# Altium schematic symbol library LDO.SchLib: 5 symbols
Pins are listed as number, name and electrical type; pins without a type are passive.

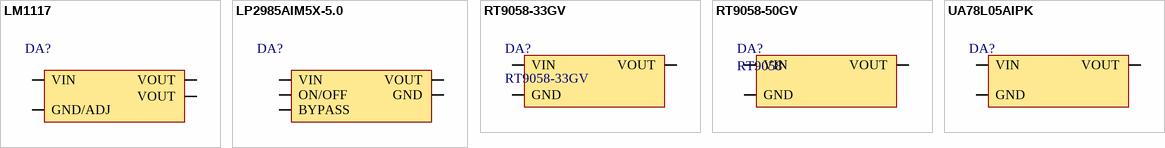
[diagram p0: symbols LM1117 to UA78L05AIPK]

## LM1117
designator DA?
footprint SOT230P700X180-4N (SOT223, 4-Leads, Body 6,50x7,00mm (avg), Pitch 2,30mm, IPC Medium Density)
pins: 1 GND/ADJ (in), 2 VOUT (power), 3 VIN (power), 4 VOUT (power)

## LP2985AIM5X-5.0
designator DA?  (value not drawn)
footprint SOT-23-5(MD) (SOT23, 5-Leads, Body 2,90x2,45mm, Pitch 0,95mm, IPC Medium Density)
pins: 1 VIN (power), 2 GND (power), 3 ON/OFF (in), 4 BYPASS (in), 5 VOUT (power)

## RT9058-33GV
designator DA?
36V, 2μA  IQ, 100mA Low Dropout Voltage Linear Regulator; Name: RT9058-33GV
footprint SOT23-3 (SOT23, 3-Leads, Body 2,90x2,45mm, Pitch 0,95mm, IPC High Density)
pins: 1 VIN (power), 2 VOUT (power), 3 GND (power)

## RT9058-50GV
designator DA?, comment RT9058
36V, 2μA  IQ, 100mA Low Dropout Voltage Linear Regulator; Name: RT9058
footprint SOT23-3 (SOT23, 3-Leads, Body 2,90x2,45mm, Pitch 0,95mm, IPC High Density)
pins: 1 VIN (power), 2 VOUT (power), 3 GND (power)

## UA78L05AIPK
designator DA?
UA78L00 Series Positive-Voltage Linear Regulators
footprint SOT89-150P410X160-3N (SOT89, 3-Leads, Body 4,50x2,50mm, Pitch 1,50mm, Lead Span 4,1mm, IPC Medium Density)
pins: 1 VOUT (power), 2 GND (power), 3 VIN (power)